# Altium schematic symbol library Final_Project.SCHLIB: 18 symbols
Pins are listed as number, name and electrical type; pins without a type are passive.

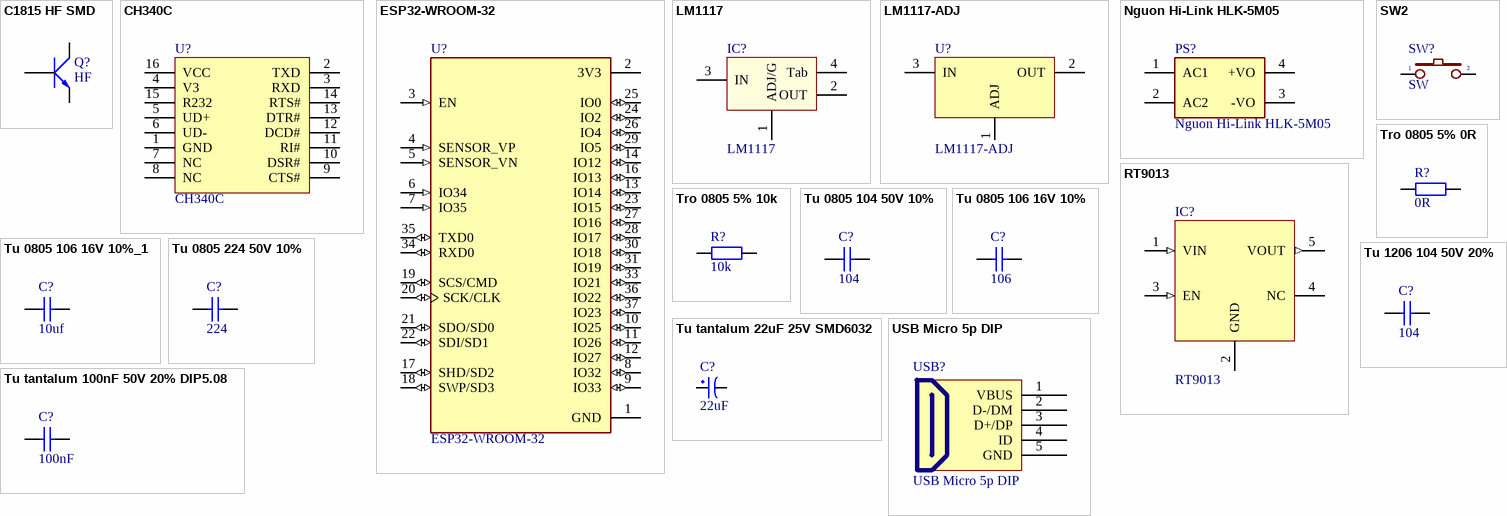
[diagram p0: symbols C1815 HF SMD to USB Micro 5p DIP]

## C1815 HF SMD
designator Q?, comment HF
NPN transistor; Value: C9014
footprint SOT23
pins: 1 B, 2 E, 3 C

## CH340C
designator U?
USB Bridge, USB to UART USB 2.0 UART Interface; Manufacturer: Olimex; Alternate Part Number-1: NA; Manufacturer Part Number: CH340C; Case/Package: SOIC16; Supplier-1: LCSC; Supplier Part Number-1: C84681
footprint SOIC16_50_284_25X90_SMT
pins: 1 GND, 2 TXD, 3 RXD, 4 V3, 5 UD+, 6 UD-, 7 NC, 8 NC, 9 CTS#, 10 DSR#, 11 RI#, 12 DCD#, 13 DTR#, 14 RTS#, 15 R232, 16 VCC

## ESP32-WROOM-32
designator U?
Bluetooth, WiFi Transceiver Module 2.4GHz ~ 2.5GHz Surface Mount; MF: Espressif Systems; Package: Module Espressif Systems; Digi-Key_Part_Number: 1904-1010-1-ND; Digi-Key_Purchase_URL: https://www.digikey.com/product-detail/en/espressif-systems/ESP32-WROOM-32/1904-1010-1-ND/8544305?utm_source=snapeda&utm_medium=aggregator&utm_campaign=symbol; Value: *; MP: ESP32-WROOM-32; SnapEDA_Link: https://www.snapeda.com/parts/ESP32-WROOM-32/Espressif%20Systems/view-part/2753322/?ref=snap
footprint MODULE_ESP32-WROOM-32
pins: 1 GND (power), 2 3V3 (power), 3 EN (in), 4 SENSOR_VP (in), 5 SENSOR_VN (in), 6 IO34 (in), 7 IO35 (in), 8 IO32 (io), 9 IO33 (io), 10 IO25 (io), 11 IO26 (io), 12 IO27 (io), 13 IO14 (io), 14 IO12 (io), 15 GND (power), 16 IO13 (io), 17 SHD/SD2 (io), 18 SWP/SD3 (io), 19 SCS/CMD (io), 20 SCK/CLK (io), 21 SDO/SD0 (io), 22 SDI/SD1 (io), 23 IO15 (io), 24 IO2 (io), 25 IO0 (io), 26 IO4 (io), 27 IO16 (io), 28 IO17 (io), 29 IO5 (io), 30 IO18 (io), 31 IO19 (io), 33 IO21 (io), 34 RXD0 (io), 35 TXD0 (io), 36 IO22 (io), 37 IO23 (io), 38 GND (power), 39_1 GND (power), 39_2 GND (power), 39_3 GND (power), 39_4 GND (power), 39_5 GND (power), 39_6 GND (power), 39_7 GND (power), 39_8 GND (power), 39_9 GND (power), 39_10 GND (power), 39_11 GND (power), 39_12 GND (power), 39_13 GND (power), 39_14 GND (power), 39_15 GND (power), 39_16 GND (power), 39_17 GND (power), 39_18 GND (power), 39_19 GND (power), 39_20 GND (power), 39_21 GND (power)

## LM1117
designator IC?
3v3; Value: LM317
footprint SOT223-4N (SOT223, 4-Leads, Body 6.5x3.5mm, Pitch 2.3mm, Lead Span 7mm, IPC Medium Density)
pins: 1 ADJ/G, 2 OUT, 3 IN, 4 Tab

## LM1117-ADJ
designator U?
800mA Low-Dropout Linear Regulator; Creator: Nguyen Ba Bien; Website: http://group3i.net
footprint LM1117-SOP
pins: 1 ADJ, 2 OUT, 3 IN

## Nguon Hi-Link HLK-5M05
designator PS?
AC DC 220V to 5V 5W 5Watt Isolated Switching Step-Down Power Supply Module Converter; Availability: Unavailable; SnapEDA_Link: https://www.snapeda.com/parts/HLK-5M05/Hi-link/view-part/2758659/?ref=snap; MF: Hi-link; Price: None; Package: Package Analog Devices; MP: HLK-5M05; Value: *
footprint Nguon HI-LINK 5M05
pins: 1 AC1, 2 AC2, 3 -VO, 4 +VO

## RT9013
designator IC?
RT9013-33GB IC REG LINEAR 3.3V 500mA SOT23-5
footprint SOT23-5 (SOT23, 5-Leads, Body 3.0x3.0mm (max), Pitch 0.95mm, IPC Medium Density)
pins: 1 VIN (in), 2 GND, 3 EN (in), 4 NC, 5 VOUT (out)

## SW2
designator SW?, comment SW
Switch button 2 pin; Value: SW chip 2 pin
footprint SW2 (SW button 2pin, 250x 250 mil)
pins: 1, 2

## Tro 0805 5% 0R
designator R?, comment 0R
Dán; Don_Vi: Con; So_Chan: 2; Ten_Linh_Kien: Trở 0805 5% 0R; Ma_Hang: MH005230; Chung_Loai: Dán; Kieu_Chan: *
footprint tro smd 0805
pins: 1, 2

## Tro 0805 5% 10k
designator R?, comment 10k
Dán; Don_Vi: Con; So_Chan: 2; Ten_Linh_Kien: Trở 0805 5% 10k; Ma_Hang: MH005239; Chung_Loai: Dán; Kieu_Chan: *
footprint tro smd 0805
pins: 1, 2

## Tu 0805 104 50V 10%
designator C?, comment 104
Dán; Don_Vi: Con; So_Chan: 2; Ten_Linh_Kien: Tụ 0805 104-100nF 10% 50V; Ma_Hang: MH004551; Chung_Loai: Dán; Kieu_Chan: *
footprint tu 0805 (Compoment SMD 80x50mil)
pins: 1, 2

## Tu 0805 106 16V 10%
designator C?, comment 106
Dán; Ten_Linh_Kien: Tụ 0805 106-10uF 10% 16V; So_Chan: 2; Don_Vi: Con; Ma_Hang: MH004553; Chung_Loai: Dán; Kieu_Chan: *
footprint tu 0805 (Compoment SMD 80x50mil)
pins: 1, 2

## Tu 0805 106 16V 10%_1
designator C?, comment 10uf
Dán; Ten_Linh_Kien: Tụ 0805 106-10uF 10% 16V; So_Chan: 2; Don_Vi: Con; Ma_Hang: MH004553; Chung_Loai: Dán; Kieu_Chan: *
footprint tu 0805 (Compoment SMD 80x50mil)
pins: 1, 2

## Tu 0805 224 50V 10%
designator C?, comment 224
Dán; Don_Vi: Con; So_Chan: 2; Ten_Linh_Kien: Tụ 0805 224-0.22uF 10% 50V; Ma_Hang: MH004559; Chung_Loai: Dán; Kieu_Chan: *
footprint tu 0805 (Compoment SMD 80x50mil)
pins: 1, 2

## Tu 1206 104 50V 20%
designator C?, comment 104
Dán; Don_Vi: Con; So_Chan: 2; Ten_Linh_Kien: Tụ 1206 104-0.1uF 20% 50V; Ma_Hang: MH004544; Chung_Loai: Dán; Kieu_Chan: *
footprint tu 1206
pins: 1, 2

## Tu tantalum 22uF 25V SMD6032
designator C?, comment 22uF
Dán; Don_Vi: Con; So_Chan: 2; Ten_Linh_Kien: Tụ tantalum 226E-22uF 25V SMD6032; Ma_Hang: MH002651; Chung_Loai: Dán; Kieu_Chan: *
footprint tu tantalum smd6032
pins: 1, 2

## Tu tantalum 100nF 50V 20% DIP5.08
designator C?, comment 100nF
Cắm; Don_Vi: Con; So_Chan: 2; Ten_Linh_Kien: Tụ tantalum 104-100nF 50V 20% DIP5.08 (sứ vàng)(10PCS); Ma_Hang: MH003955; Chung_Loai: Cắm; Kieu_Chan: *
footprint tu tantalum dip5.08
pins: 1, 2

## USB Micro 5p DIP
designator USB?
USB Type B; Ten: MicroUSB MK5P DIP; Ma_Hang: MH005145
footprint USB Micro 5p DIP
pins: 1 VBUS, 2 D-/DM, 3 D+/DP, 4 ID, 5 GND